# Altium schematic symbol library IntegrationCircuits.SchLib: 31 symbols
Pins are listed as number, name and electrical type; pins without a type are passive.

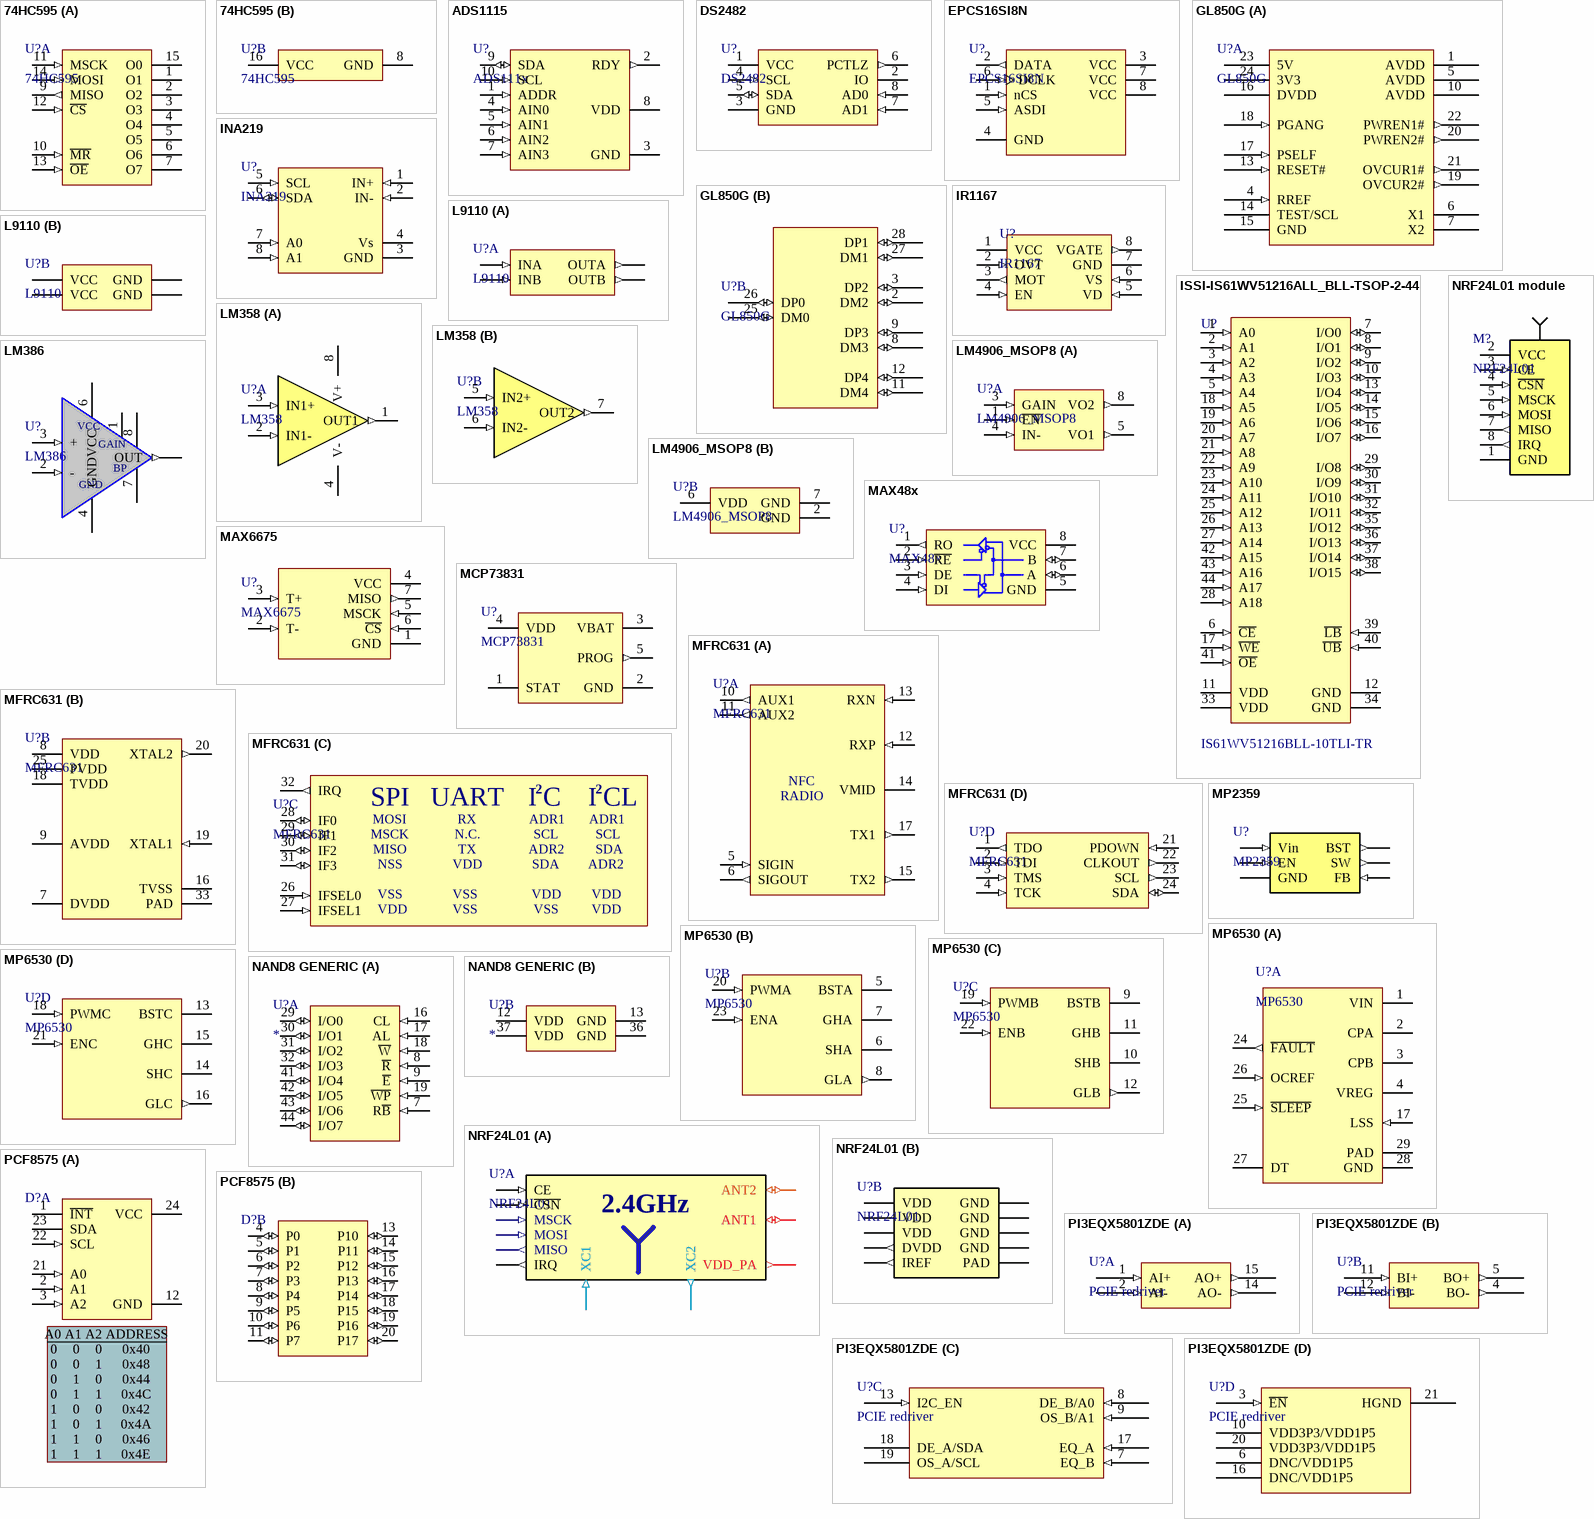
[diagram p0: symbols 74HC595 to PI3EQX5801ZDE]

## 74HC595
designator U?
8-stage serial shift registers with a storage register and  3-state outputs
footprint SO-16_M (14-Pin Small Outline Integrated Circuit 1.27 mm Pitch, IPC Low Density)
part A pins: 1 O1, 2 O2, 3 O3, 4 O4, 5 O5, 6 O6, 7 O7, 9 MISO (out), 10 ~{MR} (in), 11 MSCK (in), 12 ~{CS} (in), 13 ~{OE} (in), 14 MOSI (in), 15 O0
part B pins: 8 GND (power), 16 VCC (power)

## ADS1115
designator U?, comment ADS111x
Ultra-Small, Low-Power, I2C-Compatible 16-Bit ADCs; VDD: 2.0~5.5V
footprint VSSOP-10
pins: 1 ADDR (in), 2 RDY (out), 3 GND (power), 4 AIN0 (in), 5 AIN1 (in), 6 AIN2 (in), 7 AIN3 (in), 8 VDD (power), 9 SDA (io), 10 SCL (in)

## DS2482
designator U?
I2C to 1-wire bridge; Vcc: 2.9 ~ 5.5V
footprint SO8 (SOIC, 8-Leads, Body 4,90x4,00mm, Pitch 1,27mm, IPC Medium Density)
pins: 1 VCC (power), 2 IO (oc), 3 GND (power), 4 SCL (in), 5 SDA (io), 6 PCTLZ (out), 7 AD1 (in), 8 AD0 (in)

## EPCS16SI8N
designator U?
IC CONFIG DEVICE 16MBIT 8SOIC; Digi-Key Part Number: 544-2567-5-ND; Supplier 1: Digi-Key; Supplier 2: Farnell; Supplier 3: Mouser; Supplier 4: Farnell; Supplier Part Number 1: 544-2567-5-ND; Supplier Part Number 2: 1453463; Supplier Part Number 3: 989-EPCS16SI8N; Supplier Part Number 4: 1662246
footprint SOIC8_N (SOIC, 8-Leads, Body 4.9x3.9mm, Pitch 1.27mm, IPC Medium Density)
pins: 1 nCS (in) "Active low, chip select input", 2 DATA (out) "Serial data out", 3 VCC (power) "3.3V supply", 4 GND (power) "Ground", 5 ASDI (in) "AS data in", 6 DCLK (in) "Provides timing of the serial interface", 7 VCC (power) "3.3V supply", 8 VCC (power) "3.3V supply"

## GL850G
designator U?
USB 2.0 Low-Power HUB Controller SSOP28
footprint SSOP28 (SOP, 28-Leads, Body 10,20x5,30mm, Pitch 0,65mm, IPC Medium Density)
part A pins: 1 AVDD (power), 4 RREF (in), 5 AVDD (power), 6 X1, 7 X2, 10 AVDD (power), 13 RESET# (in), 14 TEST/SCL, 15 GND (power), 16 DVDD (power), 17 PSELF (in), 18 PGANG (in), 19 OVCUR2# (out), 20 PWREN2# (out), 21 OVCUR1# (out), 22 PWREN1# (out), 23 5V (power), 24 3V3 (power)
part B pins: 2 DM2 (io), 3 DP2 (io), 8 DM3 (io), 9 DP3 (io), 11 DM4 (io), 12 DP4 (io), 25 DM0 (io), 26 DP0 (io), 27 DM1 (io), 28 DP1 (io)

## INA219
designator U?
Zerø-Drift, Bidirectional Current/Power Monitor With I  2C Interface; VCC: 3.0 ~ 5.5V
footprint SOT23-6
footprint Model Name (Footprint not found)
pins: 1 IN+ (in), 2 IN- (in), 3 GND (power), 4 Vs (power), 5 SCL (in), 6 SDA (io), 7 A0 (in), 8 A1 (in)

## IR1167
designator U?
Secondary side high speed SR controller; Vd: 200V; Vout IR1167A: 10.7V; Vout IR1167B: 14.5V; Io: +2A / -7A; Turn on Propagation  Delay: 60ns; Turn off Propagation  Delay: 40ns
footprint SOIC8_N (SOIC, 8-Leads, Body 4.9x3.9mm, Pitch 1.27mm, IPC Medium Density)
pins: 1 VCC (power), 2 OVT (in), 3 MOT (out), 4 EN (in), 5 VD (in), 6 VS (in), 7 GND (power), 8 VGATE (out)

## ISSI-IS61WV51216ALL_BLL-TSOP-2-44
designator U?, comment IS61WV51216BLL-10TLI-TR
8 M High Speed Asynchronous CMOS SRAM with 3.3 V Supply, 512 K x 16, -40 to 85 degC, 44-Pin SOP (TSOP-2-44), Pb-Free; Manufacturer: Integrated Silicon Solution Inc (ISSI); Density: 8M; Packing: Tape & Reel; Speed (ns): 10; ComponentLink2Description: Datasheet; Mounting Technology: Surface Mount; ComponentLink3URL: http://www.issi.com/WW/pdf/61-64WV6416EEBLL.pdf; DatasheetVersion: Rev. F; ComponentLink1URL: http://www.issi.com/US/index.shtml; ComponentLink2URL: http://www.issi.com/WW/pdf/61-64WV51216.pdf; ComponentLink1Description: Manufacturer URL; RoHS: Pb-Free; PartNumber: IS61WV51216BLL-10TLI-TR; ComponentLink3Description: Package Specification; PackageVersion: Rev. F, 06/2008; PackageReference: TSOP-2-44; PackageDescription: 44-Pin 400 mil TSOP-2, Body 18.41 x 10.16 mm, Pitch 0.8 mm; Organization: 512K x 16
footprint TSOP44 (TSOP, 44-Leads, Body 18,41x10,16mm, Pitch 0,80mm, IPC Medium Density)
pins: 1 A0 (in) "Address Input", 2 A1 (in) "Address Input", 3 A2 (in) "Address Input", 4 A3 (in) "Address Input", 5 A4 (in) "Address Input", 6 ~{CE} (in) "Chip Enable Input", 7 I/O0 (io) "Data Input/Output", 8 I/O1 (io) "Data Input/Output", 9 I/O2 (io) "Data Input/Output", 10 I/O3 (io) "Data Input/Output", 11 VDD (power) "Power", 12 GND (power) "Ground", 13 I/O4 (io) "Data Input/Output", 14 I/O5 (io) "Data Input/Output", 15 I/O6 (io) "Data Input/Output", 16 I/O7 (io) "Data Input/Output", 17 ~{WE} (in) "Write Enable Input", 18 A5 (in) "Address Input", 19 A6 (in) "Address Input", 20 A7 (in) "Address Input", 21 A8 (in) "Address Input", 22 A9 (in) "Address Input", 23 A10 (in) "Address Input", 24 A11 (in) "Address Input", 25 A12 (in) "Address Input", 26 A13 (in) "Address Input", 27 A14 (in) "Address Input", 28 A18 (in) "Address Input", 29 I/O8 (io) "Data Input/Output", 30 I/O9 (io) "Data Input/Output", 31 I/O10 (io) "Data Input/Output", 32 I/O11 (io) "Data Input/Output", 33 VDD (power) "Power", 34 GND (power) "Ground", 35 I/O12 (io) "Data Input/Output", 36 I/O13 (io) "Data Input/Output", 37 I/O14 (io) "Data Input/Output", 38 I/O15 (io) "Data Input/Output", 39 ~{LB} (in) "Lower-byte Control (I/O0-I/O7)", 40 ~{UB} (in) "Upper-byte Control (I/O8-I/O15)", 41 ~{OE} (in) "Output Enable Input", 42 A15 (in) "Address Input", 43 A16 (in) "Address Input", 44 A17 (in) "Address Input"

## L9110
designator U?
DC motor driver; Vcc: 2.5~12V; Ic: 200~500mA; Ip: 800mA
footprint SO8 (SOIC, 8-Leads, Body 4,90x4,00mm, Pitch 1,27mm, IPC Medium Density)
part A pins: 1 OUTA (out), 4 OUTB (out), 6 INA (in), 7 INB (in)
part B pins: 2 VCC (power), 3 VCC (power), 5 GND (power), 8 GND (power)

## LM358
designator U?
footprint DIP08
footprint SO8 (SOIC, 8-Leads, Body 4,90x4,00mm, Pitch 1,27mm, IPC Medium Density)
simulation model LM358 (LM358 OPERATIONAL AMPLIFIER "MACROMODEL" SUBCIRCUIT)
part A pins: 1 OUT1 (out), 2 IN1- (in), 3 IN1+ (in), 4 V- (power), 8 V+ (power)
part B pins: 5 IN2+ (in), 6 IN2- (in), 7 OUT2 (out)

## LM386
designator U?
Low Voltage Audio Power Amplifier; Gain: 20 ~ 200; Supply voltage: 4 ~ 12V
footprint DIP08
footprint SO8 (SOIC, 8-Leads, Body 4,90x4,00mm, Pitch 1,27mm, IPC Medium Density)
pins: 1 GAIN, 2 - (in), 3 + (in), 4 GND (power), 5 OUT (out), 6 VCC (power), 7 BP, 8 GAIN

## LM4906_MSOP8
designator U?
audio power amplifier; Supply Voltage: 2.6 ~ 5.5V; Package: MSOP8
footprint MSOP8 (TSOP, 8-Leads, Body 3,00x3,00mm, Pitch 0,65mm, IPC Medium Density)
part A pins: 1 ~{EN} (in), 3 GAIN (in), 4 IN- (in), 5 VO1 (out), 8 VO2 (out)
part B pins: 2 GND (power), 6 VDD (power), 7 GND (power)

## MAX48x
designator U?
Low-Power, Slew-Rate-Limited  RS-485/RS-422 Transceivers; VCC MAX: 12V
footprint SO8 (SOIC, 8-Leads, Body 4,90x4,00mm, Pitch 1,27mm, IPC Medium Density)
footprint DIP08
footprint DIP08 SMD
pins: 1 RO (out), 2 ~{RE} (in), 3 DE (in), 4 DI (in), 5 GND (power), 6 A (io), 7 B (io), 8 VCC (power)

## MAX6675
designator U?
Thermocouple ADC
footprint SO8 (SOIC, 8-Leads, Body 4,90x4,00mm, Pitch 1,27mm, IPC Medium Density)
pins: 1 GND (power), 2 T- (in), 3 T+ (in), 4 VCC (power), 5 MSCK (in), 6 ~{CS} (in), 7 MISO (out)

## MCP73831
designator U?
Linear Charge Management Controller; Supply Voltage: 3.75 ~ 6V
footprint SOT23-5 (SOT23, 6-Leads, Body 2,90x2,80mm, Pitch 0,95mm, IPC Medium Density)
pins: 1 STAT (oc), 2 GND (power), 3 VBAT (power), 4 VDD (power), 5 PROG (out)

## MFRC631
designator U?
RFID/NDF: High-performance ISO/IEC 14443 A/B frontend; Vdd: 3.0 ~ 5.5V; Idd max: 100 ~ 250mA
footprint HVQFN32 (PQFN, 32-Leads, Body 5,00x5,00mm, Pitch 0,50mm, Thermal Pad 3,10x3,10mm, IPC Medium Density)
part A pins: 5 SIGIN (in), 6 SIGOUT (out), 10 AUX1 (out), 11 AUX2 (out), 12 RXP (in), 13 RXN (in), 14 VMID (power), 15 TX2 (out), 17 TX1 (out)
part B pins: 7 DVDD (power), 8 VDD (power), 9 AVDD (power), 16 TVSS (power), 18 TVDD (power), 19 XTAL1 (in), 20 XTAL2 (out), 25 PVDD (oe), 33 PAD (power)
part C pins: 26 IFSEL0 (in), 27 IFSEL1 (in), 28 IF0 (io), 29 IF1 (io), 30 IF2 (io), 31 IF3 (io), 32 IRQ (out)
part D pins: 1 TDO (out), 2 TDI (in), 3 TMS (in), 4 TCK (in), 21 PDOWN (in), 22 CLKOUT (out), 23 SCL (out), 24 SDA (io)
part A text: NFC; RADIO
part C text: SPI; UART; I; C; CL; MOSI; RX; ADR1; MSCK; N.C.; MISO; TX; ADR2; NSS; VSS

## MP2359
designator U?
monolithic step-down switch  mode converter with a built-in power MOSFET; Supply Voltage VIN: 4.5V - 24V; Output Voltage VOUT: 0.81V to 15V; Peak Output Current: 1.2A; Frequency: 1.4MHz
footprint TSOP23-6
pins: 1 BST (out), 2 GND (power), 3 FB (in), 4 EN (in), 5 Vin (in), 6 SW (out)

## MP6530
designator U?
MP6530 is a gate driver IC designed for  three-phase brushless DC motor driver  applications; Vin: 5 ~ 60V
footprint QFN28 (QFN, 28-Leads, Body 4,00x4,00mm, Pitch 0,40mm, Thermal Pad 2,60x2,60mm, IPC Medium Density)
part A pins: 1 VIN (power), 2 CPA, 3 CPB, 4 VREG, 17 LSS (in), 24 ~{FAULT} (out), 25 ~{SLEEP} (in), 26 OCREF (in), 27 DT, 28 GND (power), 29 PAD (power)
part B pins: 5 BSTA, 6 SHA, 7 GHA, 8 GLA (out), 20 PWMA (in), 23 ENA (in)
part C pins: 9 BSTB, 10 SHB, 11 GHB, 12 GLB (out), 19 PWMB (in), 22 ENB (in)
part D pins: 13 BSTC, 14 SHC, 15 GHC, 16 GLC (out), 18 PWMC (in), 21 ENC (in)

## NAND8 GENERIC
designator U?
NAND8 GENERIC
footprint TSOP48 (TSOP, 48-Leads, Body 12.1x18.5mm, Pitch 0.5mm, IPC Low Density)
part A pins: 7 R~{B} (in), 8 ~{R} (in), 9 ~{E} (in), 16 CL (in), 17 AL (in), 18 ~{W} (in), 19 ~{WP} (in), 29 I/O0 (io), 30 I/O1 (io), 31 I/O2 (io), 32 I/O3 (io), 41 I/O4 (io), 42 I/O5 (io), 43 I/O6 (io), 44 I/O7 (io)
part B pins: 12 VDD (power), 13 GND (power), 36 GND (power), 37 VDD (power)

## NRF24L01
designator U?
2.4GHz WIRELESS TRANSIVER
footprint QFN20 (QFN, 20-Leads, Body 4,00x4,00mm, Pitch 0,50mm, Thermal Pad 2,60x2,60mm, IPC Medium Density)
part A pins: 1 CE (in) "CHIP ENABLE", 2 ~{CSN} (in) "CHIP SELECT", 3 MSCK (in) "SPI CLOCK", 4 MOSI (in) "SPI DATA IN", 5 MISO (out) "SPI DATA OUT", 6 IRQ (out) "INTERRUPT", 9 XC2 (out), 10 XC1 (in), 11 VDD_PA (out), 12 ANT1 (io), 13 ANT2 (io)
part B pins: 7 VDD (power), 8 GND (power), 14 GND (power), 15 VDD (power), 16 IREF (out), 17 GND (power), 18 VDD (power), 19 DVDD (out), 20 GND (power), 21 PAD (power)
part A text: 2.4GHz

## NRF24L01 module
designator M?, comment NRF24L01
2.4GHz transiver/receiver
footprint NRF24L01+LNA Module 8pin
pins: 1 GND (power), 2 VCC (power), 3 CE (in), 4 ~{CSN} (in), 5 MSCK (in), 6 MOSI (in), 7 MISO (out), 8 IRQ (out)

## PCF8575
designator D?, comment I/O Expander  (value not drawn)
Remote16-BIT I / 2C AND SMBus I/O Expander / with Interrupt Output
footprint TSSOP24 (SOP, 24-Leads, Body 7,80x4,40mm, Pitch 0,65mm, IPC Medium Density)
part A pins: 1 ~{INT} (oc), 2 A1 (in), 3 A2 (in), 12 GND (power), 21 A0 (in), 22 SCL (in), 23 SDA (oc), 24 VCC (power)
part B pins: 4 P0 (io), 5 P1 (io), 6 P2 (io), 7 P3 (io), 8 P4 (io), 9 P5 (io), 10 P6 (io), 11 P7 (io), 13 P10 (io), 14 P11 (io), 15 P12 (io), 16 P13 (io), 17 P14 (io), 18 P15 (io), 19 P16 (io), 20 P17 (io)
part A text: A0 A1 A2 ADDRESS; 0; 0x40; 0x48; 0x44; 0x4C; 0x42; 0x4A; 0x46; 0x4E

## PI3EQX5801ZDE
designator U?, comment PCIE redriver
footprint QFN20 (QFN, 20-Leads, Body 4,00x4,00mm, Pitch 0,50mm, Thermal Pad 2,60x2,60mm, IPC Medium Density)
part A pins: 1 AI+ (in), 2 AI- (in), 14 AO- (out), 15 AO+ (out)
part B pins: 4 BO- (out), 5 BO+ (out), 11 BI+ (in), 12 BI- (in)
part C pins: 7 EQ_B (in), 8 DE_B/A0 (in), 9 OS_B/A1 (in), 13 I2C_EN (in), 17 EQ_A (in), 18 DE_A/SDA, 19 OS_A/SCL
part D pins: 3 ~{EN} (in), 6 DNC/VDD1P5, 10 VDD3P3/VDD1P5, 16 DNC/VDD1P5, 20 VDD3P3/VDD1P5, 21 HGND

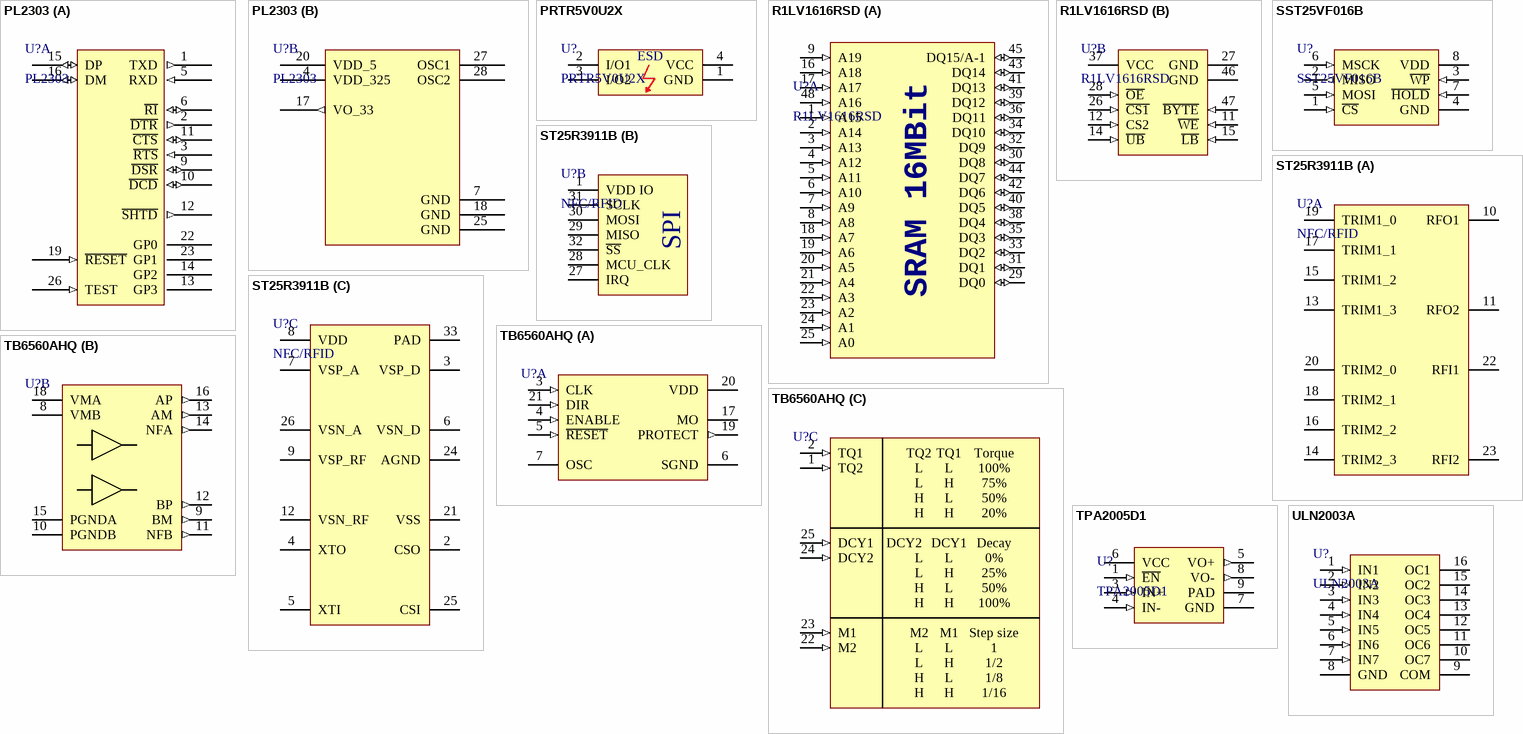
[diagram p1: symbols PL2303 to ULN2003A]

## PL2303
designator U?
USB to Serial Bridge Controller
footprint SSOP28 (SOP, 28-Leads, Body 10,20x5,30mm, Pitch 0,65mm, IPC Medium Density)
part A pins: 1 TXD (out), 2 ~{DTR} (out), 3 ~{RTS} (in), 5 RXD (in), 6 ~{RI} (io), 9 ~{DSR} (io), 10 ~{DCD} (io), 11 ~{CTS} (io), 12 ~{SHTD} (out), 13 GP3, 14 GP2, 15 DP (io), 16 DM (io), 19 ~{RESET} (in), 22 GP0, 23 GP1, 26 TEST (in)
part B pins: 4 VDD_325, 7 GND (power), 17 VO_33 (out), 18 GND (power), 20 VDD_5, 25 GND (power), 27 OSC1 "TEST PROBE", 28 OSC2 "TEST PROBE"

## PRTR5V0U2X
designator U?
footprint SOT143 (SOT143, 4-Leads, Body 2,90x2,37mm, Pitch 1,90mm, IPC Medium Density)
pins: 1 GND (power), 2 I/O1, 3 I/O2, 4 VCC (power)
text: ESD

## R1LV1616RSD
designator U?
16Mb Advanced LPSRAM; VCC: 2.7 V ~ 3.6 V; R1LV1616RSD-5S: 55ns; R1LV1616RSD-7S: 70ns; R1LV1616RSD-8S: 85ns; Digi-Key Part Number: R1LV1616RSA-5SI#B0-ND; Operating Temperature: -40°C ~ 85°C
footprint TSOP48 (TSOP, 48-Leads, Body 12.1x18.5mm, Pitch 0.5mm, IPC Low Density)
part A pins: 1 A15 (in), 2 A14 (in), 3 A13 (in), 4 A12 (in), 5 A11 (in), 6 A10 (in), 7 A9 (in), 8 A8 (in), 9 A19 (in), 16 A18 (in), 17 A17 (in), 18 A7 (in), 19 A6 (in), 20 A5 (in), 21 A4 (in), 22 A3 (in), 23 A2 (in), 24 A1 (in), 25 A0 (in), 29 DQ0 (io), 30 DQ8 (io), 31 DQ1 (io), 32 DQ9 (io), 33 DQ2 (io), 34 DQ10 (io), 35 DQ3 (io), 36 DQ11 (io), 38 DQ4 (io), 39 DQ12 (io), 40 DQ5 (io), 41 DQ13 (io), 42 DQ6 (io), 43 DQ14 (io), 44 DQ7 (io), 45 DQ15/A-1 (io), 48 A16 (in)
part B pins: 11 ~{WE} (in), 12 CS2 (in), 14 ~{UB} (in), 15 ~{LB} (in), 26 ~{CS1} (in), 27 GND (power), 28 ~{OE} (in), 37 VCC (power), 46 GND (power), 47 ~{BYTE} (in)
part A text: SRAM 16MBit

## SST25VF016B
designator U?
SPI Serial Flash; Iddr read current: 15 ~ 20mA; Ipp: 30mA; Iidle: 20uA; Endurance: 10000 cycles; VDD: 2.7 ~ 3.6V
footprint SO8W 200MIL (SOIC, 8-Leads, Body 5,28x5,28mm, Pitch 1,27mm, IPC Low Density)
pins: 1 ~{CS} (in), 2 MISO (out), 3 ~{WP} (in), 4 GND (power), 5 MOSI (in), 6 MSCK (in), 7 ~{HOLD} (in), 8 VDD (power)

## ST25R3911B
designator U?, comment NFC/RFID
High performance reader / NFC initiator   with 1.4 W supporting VHBR and AAT; Vdd: 2.4 ~ 5.5V; Vdd IO: 1.65 ~ 5.5V
footprint DFN32 500X500X100_HS-33N (PQFN, 32-Leads, Body 5,00x5,00mm, Pitch 0,50mm, Thermal Pad 3,50x3,50mm, IPC Medium Density)
part A pins: 10 RFO1, 11 RFO2, 13 TRIM1_3, 14 TRIM2_3, 15 TRIM1_2, 16 TRIM2_2, 17 TRIM1_1, 18 TRIM2_1, 19 TRIM1_0, 20 TRIM2_0, 22 RFI1, 23 RFI2
part B pins: 1 VDD IO (power), 27 IRQ, 28 MCU_CLK, 29 MISO, 30 MOSI, 31 SCLK, 32 ~{SS}
part C pins: 2 CSO, 3 VSP_D, 4 XTO, 5 XTI, 6 VSN_D, 7 VSP_A, 8 VDD, 9 VSP_RF, 12 VSN_RF, 21 VSS, 24 AGND, 25 CSI, 26 VSN_A, 33 PAD
part B text: SPI

## TB6560AHQ
designator U?, comment STP DRIVER  (value not drawn)
PWM chopper-type stepping motor / driver IC designed for sinusoidal-input microstep control of / bipolar stepping motors; VDSS Max: 40V; I out: 3.5 A; VDD: 5V
footprint HZIP25 (IC packege HZIP 25 pins pitch 1.27mm)
footprint HZIP25_PCB (IC packege HZIP 25 pins pitch 1.27mm)
part A pins: 3 CLK (in), 4 ENABLE (in), 5 ~{RESET} (in), 6 SGND (power), 7 OSC, 17 MO (oc), 19 PROTECT (out), 20 VDD (power), 21 DIR (in)
part B pins: 8 VMB (power), 9 BM (out), 10 PGNDB (power), 11 NFB (out), 12 BP (out), 13 AM (out), 14 NFA (out), 15 PGNDA (power), 16 AP (out), 18 VMA (power)
part C pins: 1 TQ2 (in), 2 TQ1 (in), 22 M2 (in), 23 M1 (in), 24 DCY2 (in), 25 DCY1 (in)
part C text: Torque; L; 100%; H; 75%; 50%; 20%; Decay; 0%; 25%; Step size; 1/2; 1/8; 1/16

## TPA2005D1
designator U?
1.4-W high efficiency filter-free class-D audio power amplifier; Supply Voltage: 2.5 ~ 5.5
footprint VSON8 (SON, 8-Leads, Body 3,18x3,18mm, Pitch 0,65mm, Thermal Pad 1,75x1,44mm, IPC Medium Density)
footprint MSOP8_T (TSOP, 8-Leads, Body 3,00x3,00mm, Pitch 0,65mm, Thermal Pad 1,89x1,57mm, IPC Medium Density)
pins: 1 ~{EN} (in), 3 IN+ (in), 4 IN- (in), 5 VO+ (out), 6 VCC (power), 7 GND (power), 8 VO- (out), 9 PAD

## ULN2003A
designator U?
Darlington  transistor arrays
footprint SO-16_M (14-Pin Small Outline Integrated Circuit 1.27 mm Pitch, IPC Low Density)
pins: 1 IN1 (in), 2 IN2 (in), 3 IN3 (in), 4 IN4 (in), 5 IN5 (in), 6 IN6 (in), 7 IN7 (in), 8 GND (power), 9 COM (power), 10 OC7 (power), 11 OC6 (power), 12 OC5 (power), 13 OC4 (power), 14 OC3 (power), 15 OC2 (power), 16 OC1 (power)